# Altium schematic symbol library ul_CZRU52C3V3.SchLib: 2 symbols
Pins are listed as number, name and electrical type; pins without a type are passive.

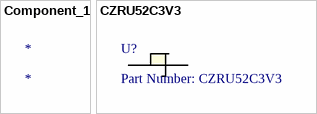
[diagram p0: symbols Component_1 to CZRU52C3V3]

## Component_1
designator *

## CZRU52C3V3
designator U?, comment Part Number: CZRU52C3V3
No Description Available; Vendor: Comchip; Built_By: EMA_UL_Team; Manufacturer_Part_Number: CZRU52C3V3; Copyright: Copyright (C) 2018 Accelerated Designs. All rights reserved; RefDes: RefDes; Type: DEV; Value: Value
footprint CZRU
pins: 1, 2